# EAGLE library part EA2-5TNFG (library railman)
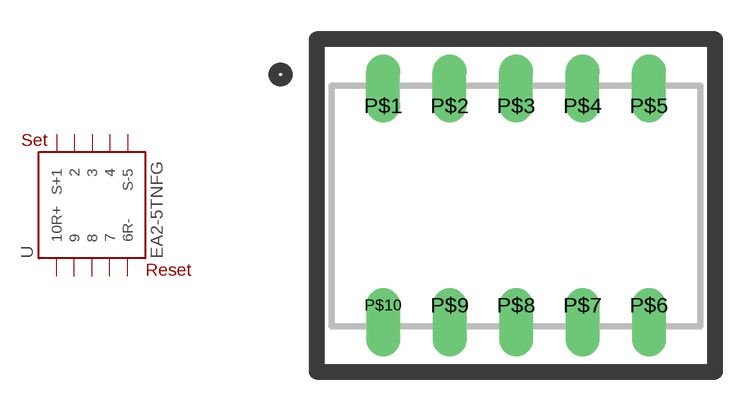
[diagram p4: symbol with the pads of EA2-SERIES-RELAY; footprint EA2-SERIES-RELAY]

Designator prefix -

## EA2-5TNFG  [EA2-SERIES-RELAY]
P$1  S+1  pwr
P$2  2
P$3  3
P$4  4
P$5  S-5  pwr
P$6  6R-  pwr
P$7  7
P$8  8
P$9  9
P$10  10R+  pwr

## Footprint EA2-SERIES-RELAY (pad centres in mm)
drill 0.8 offset: P$1 -5.08,3.81; P$2 -2.54,3.81; P$3 0,3.81; P$4 2.54,3.81; P$5 5.08,3.81; P$6 5.08,-3.81; P$7 2.54,-3.81; P$8 0,-3.81; P$9 -2.54,-3.81; P$10 -5.08,-3.81